# EAGLE library part BMP085 (library iSENSE_Data_Logger)
Bosch Temperature/Pressure Sensor I2C interface.
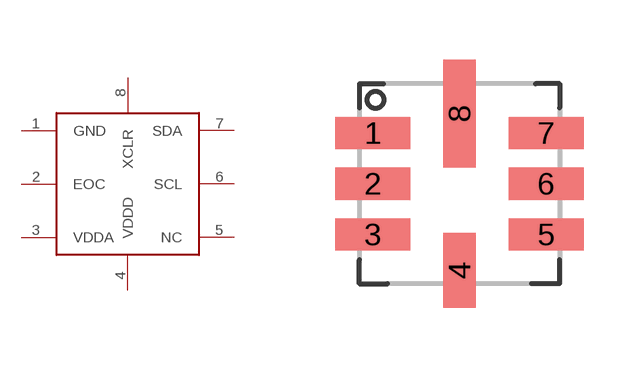
[diagram p3: symbol with the pads of BMP085; footprint BMP085]

Designator prefix U

## BMP085 (PN: BMP085)  [BMP085]
1  GND  pwr
2  EOC
3  VDDA  pwr
4  VDDD  pwr
5  NC  nc
6  SCL  in
7  SDA
8  XCLR  in

## Footprint BMP085 (pad centres in mm)
smd 1.87 x 0.8: 1 -2.165,1.27; 2 -2.165,0; 3 -2.165,-1.27; 5 2.165,-1.27; 6 2.165,0; 7 2.165,1.27
smd 0.8 x 1.87: 4 0,-2.165
smd 0.8 x 2.7: 8 0,1.75